# Altium schematic symbol library NTS4001NT1G.SchLib: 1 symbol
Pins are listed as number, name and electrical type; pins without a type are passive.

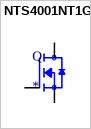
[diagram p0: symbol NTS4001NT1G]

## NTS4001NT1G
designator Q
N-Channel 30V 270mA _Ta_ 330mW _Ta_ Surface Mount SC-70-3 _SOT323_; MP: NTS4001NT1G; MF: ON Semiconductor; Package: SC-70 ON Semiconductor; SnapEDA_Link: https://www.snapeda.com/parts/NTS4001NT1G/ON%20Semiconductor/view-part/274588/?ref=snap; Price: None; Value: *; Availability: Unavailable
footprint SOT65P220X100-3N
pins: 1 G, 2 S, 3 D